# Altium schematic symbol library CONN_2PIN.SchLib: 1 symbol
Pins are listed as number, name and electrical type; pins without a type are passive.

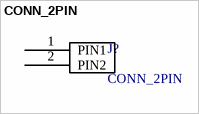
[diagram p0: symbol CONN_2PIN]

## CONN_2PIN
designator J?
2-pin connector symbol
pins: 1 PIN1, 2 PIN2